# Altium footprint library lib_connectors.PcbLib: 17 footprints (part 1 of 2)
Each footprint in its own frame and in the unit in brackets; x right, y up, seen from the top. Pads: shape width x height; smd on the part's side, far side on the other; paste and mask are expansions set on the pad; w line width, h text height; cw(c..) or ccw(c..) is an arc to the next point about the centre after c.
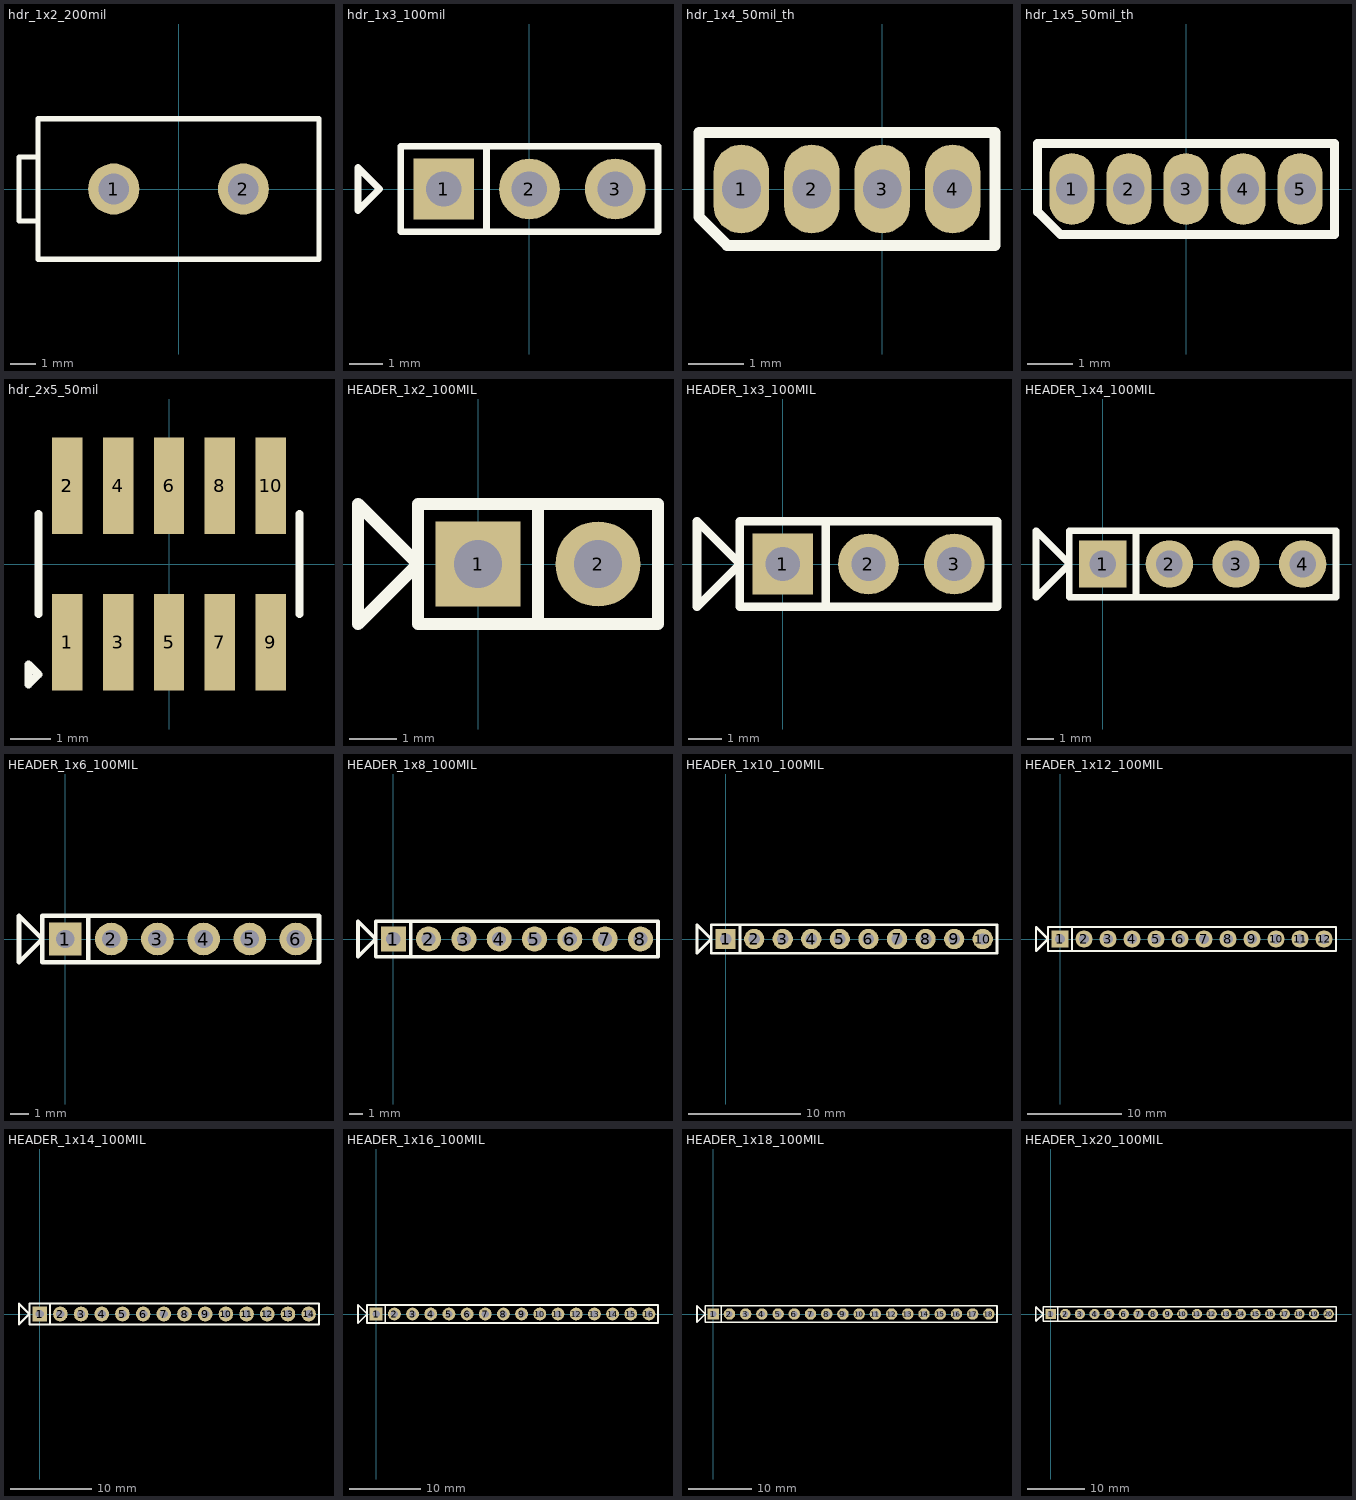
[diagram p0: the footprints below, top view; thin cyan lines are the x and y axes]

## hdr_1x2_200mil [mm]
pads (2):
  round 2 hole 1.2: 1(-2.54,0) 2(2.54,0)
Top Overlay:
  lines w0.2: -5.5,-1.25 -6.25,-1.25 -6.25,1.25 -5.5,1.25 ; -5.5,-2.75 -5.5,2.75 5.5,2.75 5.5,-2.75 -5.5,-2.75

## hdr_1x3_100mil [mm]
pads (3):
  rect 1.8x1.8 hole 1.05: 1(-2.54,0)
  round 1.8 hole 1.05: 2(0,0) 3(2.54,0)
Top Overlay:
  lines w0.2: -1.27,-1.27 -1.27,1.27 ; -5.08,-0.635 -4.445,0 -5.08,0.635 -5.08,-0.635 ; -3.81,-1.27 3.81,-1.27 3.81,1.27 -3.81,1.27 -3.81,-1.27
3D body "022284031.stp": height 10.47, standoff -2.99, extent -3.81,-1.244 3.81,1.245

## hdr_1x4_50mil_th [mm]
pads (4):
  oval 1x1.6 hole 0.7: 1(-2.54,0) 2(-1.27,0) 3(0,0) 4(1.27,0)
Top Overlay:
  lines w0.2: -3.302,-0.508 -3.302,1.016 2.032,1.016 2.032,-1.016 -2.794,-1.016 -3.302,-0.508

## hdr_1x5_50mil_th [mm]
pads (5):
  oval 1x1.6 hole 0.7: 1(-2.54,0) 2(-1.27,0) 3(0,0) 4(1.27,0) 5(2.54,0)
Top Overlay:
  lines w0.2: -3.302,-0.508 -3.302,1.016 3.302,1.016 3.302,-1.016 -2.794,-1.016 -3.302,-0.508

## hdr_2x5_50mil [mm] "2x5 Pin header, 50mil pitch"
pads (11):
  rect 0.76x2.4 smd: 1(-2.54,-1.95) 2(-2.54,1.95) 2(-2.54,1.95) 3(-1.27,-1.95) 4(-1.27,1.95) 5(0,-1.95) 6(0,1.95) 7(1.27,-1.95) 8(1.27,1.95) 9(2.54,-1.95) 10(2.54,1.95)
Top Overlay:
  lines w0.2: -3.25,-1.25 -3.25,1.25 ; 3.25,-1.25 3.25,1.25 ; -3.5,-3 -3.25,-2.75 -3.5,-2.5 -3.5,-3
3D body "20021121-00010XXLFc.stp": height 4.5, standoff 0, extent -3.175,-2.75 3.175,2.75

## HEADER_1x2_100MIL [mm]
pads (2):
  rect 1.8x1.8 hole 1.016: 1(0,0)
  round 1.8 hole 1.016: 2(2.54,0)
Top Overlay:
  lines w0.254: 1.27,-1.27 1.27,1.27 ; -2.54,-1.27 -1.27,0 -2.54,1.27 -2.54,-1.27 ; -1.27,-1.27 3.81,-1.27 3.81,1.27 -1.27,1.27 -1.27,-1.27
3D body "TSW-102-07-F-S.stp": height 8.38, standoff -2.54, extent -1.397,-1.27 3.81,1.27

## HEADER_1x3_100MIL [mm]
pads (3):
  rect 1.8x1.8 hole 1.016: 1(0,0)
  round 1.8 hole 1.016: 2(2.54,0) 3(5.08,0)
Top Overlay:
  lines w0.254: 1.27,-1.27 1.27,1.27 ; -2.54,-1.27 -2.54,1.27 -1.27,0 -2.54,-1.27 ; -1.27,-1.27 -1.27,1.27 6.35,1.27 6.35,-1.27 -1.27,-1.27
3D body "TSW-103-07-F-S.stp": height 8.38, standoff -2.54, extent -1.397,-1.27 6.35,1.27

## HEADER_1x4_100MIL [mm]
pads (4):
  rect 1.8x1.8 hole 1.016: 1(0,0)
  round 1.8 hole 1.016: 2(2.54,0) 3(5.08,0) 4(7.62,0)
Top Overlay:
  lines w0.254: 1.27,-1.27 1.27,1.27 ; -2.54,-1.27 -1.27,0 -2.54,1.27 -2.54,-1.27 ; -1.27,-1.27 8.89,-1.27 8.89,1.27 -1.27,1.27 -1.27,-1.27
3D body "TSW-104-07-F-S.stp": height 8.38, standoff -2.54, extent -1.397,-1.27 8.89,1.27

## HEADER_1x6_100MIL [mm]
pads (6):
  rect 1.8x1.8 hole 1.016: 1(0,0)
  round 1.8 hole 1.016: 2(2.54,0) 3(5.08,0) 4(7.62,0) 5(10.16,0) 6(12.7,0)
Top Overlay:
  lines w0.254: 1.27,-1.27 1.27,1.27 ; -2.54,-1.27 -2.54,1.27 -1.27,0 -2.54,-1.27 ; -1.27,-1.27 -1.27,1.27 13.97,1.27 13.97,-1.27 -1.27,-1.27
3D body "TSW-106-07-F-S.stp": height 8.38, standoff -2.54, extent -1.397,-1.27 13.97,1.27

## HEADER_1x8_100MIL [mm]
pads (8):
  rect 1.8x1.8 hole 1.016: 1(0,0)
  round 1.8 hole 1.016: 2(2.54,0) 3(5.08,0) 4(7.62,0) 5(10.16,0) 6(12.7,0) 7(15.24,0) 8(17.78,0)
Top Overlay:
  lines w0.254: 1.27,-1.27 1.27,1.27 ; -2.54,-1.27 -1.27,0 -2.54,1.27 -2.54,-1.27 ; -1.27,-1.27 19.05,-1.27 19.05,1.27 -1.27,1.27 -1.27,-1.27
3D body "TSW-108-07-F-S.stp": height 8.38, standoff -2.54, extent -1.397,-1.27 19.05,1.27

## HEADER_1x10_100MIL [mm]
pads (10):
  rect 1.8x1.8 hole 1.016: 1(0,0)
  round 1.8 hole 1.016: 2(2.54,0) 3(5.08,0) 4(7.62,0) 5(10.16,0) 6(12.7,0) 7(15.24,0) 8(17.78,0) 9(20.32,0) 10(22.86,0)
Top Overlay:
  lines w0.254: 1.27,-1.27 1.27,1.27 ; -2.54,-1.27 -2.54,1.27 -1.27,0 -2.54,-1.27 ; -1.27,-1.27 -1.27,1.27 24.13,1.27 24.13,-1.27 -1.27,-1.27
3D body "TSW-110-07-F-S.stp": height 8.38, standoff -2.54, extent -1.397,-1.27 24.13,1.27

## HEADER_1x12_100MIL [mm]
pads (12):
  rect 1.8x1.8 hole 1.016: 1(0,0)
  round 1.8 hole 1.016: 2(2.54,0) 3(5.08,0) 4(7.62,0) 5(10.16,0) 6(12.7,0) 7(15.24,0) 8(17.78,0) 9(20.32,0) 10(22.86,0) 11(25.4,0) 12(27.94,0)
Top Overlay:
  lines w0.254: 1.27,-1.27 1.27,1.27 ; -2.54,-1.27 -1.27,0 -2.54,1.27 -2.54,-1.27 ; -1.27,-1.27 29.21,-1.27 29.21,1.27 -1.27,1.27 -1.27,-1.27
3D body "TSW-112-07-F-S.stp": height 8.38, standoff -2.54, extent -1.333,-1.27 29.273,1.27

## HEADER_1x14_100MIL [mm]
pads (14):
  rect 1.8x1.8 hole 1.016: 1(0,0)
  round 1.8 hole 1.016: 2(2.54,0) 3(5.08,0) 4(7.62,0) 5(10.16,0) 6(12.7,0) 7(15.24,0) 8(17.78,0) 9(20.32,0) 10(22.86,0) 11(25.4,0) 12(27.94,0) 13(30.48,0) 14(33.02,0)
Top Overlay:
  lines w0.254: 1.27,-1.27 1.27,1.27 ; -2.54,-1.27 -2.54,1.27 -1.27,0 -2.54,-1.27 ; -1.27,-1.27 -1.27,1.27 34.29,1.27 34.29,-1.27 -1.27,-1.27
3D body "TSW-114-07-F-S.stp": height 8.38, standoff -2.54, extent -1.397,-1.27 34.29,1.27

## HEADER_1x16_100MIL [mm]
pads (16):
  rect 1.8x1.8 hole 1.016: 1(0,0)
  round 1.8 hole 1.016: 2(2.54,0) 3(5.08,0) 4(7.62,0) 5(10.16,0) 6(12.7,0) 7(15.24,0) 8(17.78,0) 9(20.32,0) 10(22.86,0) 11(25.4,0) 12(27.94,0) 13(30.48,0) 14(33.02,0) 15(35.56,0) 16(38.1,0)
Top Overlay:
  lines w0.254: 1.27,-1.27 1.27,1.27 ; -2.54,-1.27 -1.27,0 -2.54,1.27 -2.54,-1.27 ; -1.27,-1.27 39.37,-1.27 39.37,1.27 -1.27,1.27 -1.27,-1.27
3D body "TSW-116-07-F-S.stp": height 8.38, standoff -2.54, extent -1.397,-1.27 39.37,1.27

## HEADER_1x18_100MIL [mm]
pads (18):
  rect 1.8x1.8 hole 1.016: 1(0,0)
  round 1.8 hole 1.016: 2(2.54,0) 3(5.08,0) 4(7.62,0) 5(10.16,0) 6(12.7,0) 7(15.24,0) 8(17.78,0) 9(20.32,0) 10(22.86,0) 11(25.4,0) 12(27.94,0) 13(30.48,0) 14(33.02,0) 15(35.56,0) 16(38.1,0) 17(40.64,0) 18(43.18,0)
Top Overlay:
  lines w0.254: 1.27,-1.27 1.27,1.27 ; -2.54,-1.27 -2.54,1.27 -1.27,0 -2.54,-1.27 ; -1.27,-1.27 -1.27,1.27 44.45,1.27 44.45,-1.27 -1.27,-1.27
3D body "TSW-118-07-F-S.stp": height 8.38, standoff -2.54, extent -1.397,-1.27 44.45,1.27

## HEADER_1x20_100MIL [mm]
pads (20):
  rect 1.8x1.8 hole 1.016: 1(0,0)
  round 1.8 hole 1.016: 2(2.54,0) 3(5.08,0) 4(7.62,0) 5(10.16,0) 6(12.7,0) 7(15.24,0) 8(17.78,0) 9(20.32,0) 10(22.86,0) 11(25.4,0) 12(27.94,0) 13(30.48,0) 14(33.02,0) 15(35.56,0) 16(38.1,0) 17(40.64,0) 18(43.18,0) 19(45.72,0) 20(48.26,0)
Top Overlay:
  lines w0.254: 1.27,-1.27 1.27,1.27 ; -2.54,-1.27 -2.54,1.27 -1.27,0 -2.54,-1.27 ; -1.27,-1.27 -1.27,1.27 49.53,1.27 49.53,-1.27 -1.27,-1.27
3D body "TSW-120-07-F-S.stp": height 8.38, standoff -2.54, extent -1.397,-1.27 49.53,1.27